# Altium footprint library ICs.PcbLib: 56 footprints (part 4 of 4)
Each footprint in its own frame and in the unit in brackets; x right, y up, seen from the top. Pads: shape width x height; smd on the part's side, far side on the other; paste and mask are expansions set on the pad; w line width, h text height; cw(c..) or ccw(c..) is an arc to the next point about the centre after c.
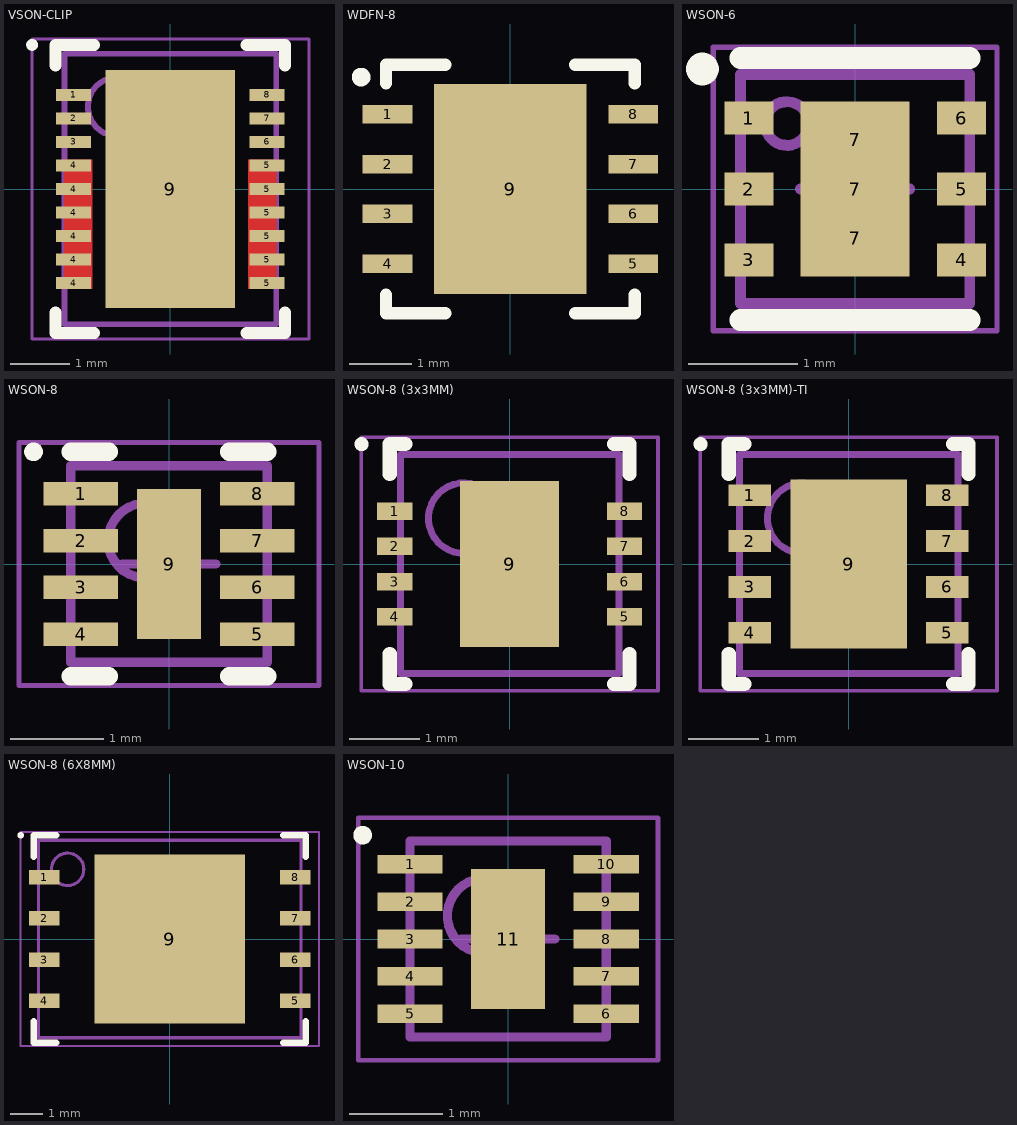
[diagram p3: the footprints below, top view; thin cyan lines are the x and y axes]

## VSON-CLIP [mm] "SON, 18-Leads, Body 4.50x3.50mm, Pitch 0.40mm, Thermal Pad 3.95x1.99mm, IPC Medium Density"
height 1
pads (19):
  rect 0.6x0.2 smd: 1(-1.645,1.6) 2(-1.645,1.2) 3(-1.645,0.8) 4(-1.645,-1.6) 4(-1.645,-1.2) 4(-1.645,-0.8) 4(-1.645,-0.4) 4(-1.645,0) 4(-1.645,0.4) 5(1.645,-1.6) 5(1.645,-1.2) 5(1.645,-0.8) 5(1.645,-0.4) 5(1.645,0) 5(1.645,0.4) 6(1.645,0.8) 7(1.645,1.2) 8(1.645,1.6)
  rect 2.2x4.05 smd: 9(0,0)
Top Layer:
  region: 1.8,0.5 1.325,0.5 1.325,-1.7 1.8,-1.7
  region: -1.8,0.5 -1.325,0.5 -1.325,-1.7 -1.8,-1.7
Top Overlay:
  circle w0.1: c-2.35,2.45 r0.05
  lines w0.2: -1.95,-2.1 -1.95,-2.45 -1.295,-2.45 ; -1.95,2.1 -1.95,2.45 -1.295,2.45 ; 1.295,-2.45 1.95,-2.45 1.95,-2.1 ; 1.295,2.45 1.95,2.45 1.95,2.1
Mechanical 13:
  circle w0.1: c-0.9,1.4 r0.5
  lines w0.1: -1.8,-2.3 1.8,-2.3 1.8,2.3 -1.8,2.3 -1.8,-2.3
Mechanical 15:
  lines w0.05: -2.355,-2.55 2.355,-2.55 2.355,2.55 -2.355,2.55 -2.355,-2.55
  lines w0.1: -0.5,0 0.5,0 ; 0,-0.5 0,0.5
3D body "SON40P350X100_HS-19N.step": height 1, standoff 0, extent -1.801,-2.3 1.801,2.3

## WDFN-8 [mm] "SON, 8-Leads, Body 3.00x3.00mm, Pitch 0.65mm, Thermal Pad 2.00x1.47mm, IPC Medium Density"
height 1
pads (9):
  rect 0.8x0.3 smd: 1(-1.975,1.2) 2(-1.975,0.4) 3(-1.975,-0.4) 4(-1.975,-1.2) 5(1.975,-1.2) 6(1.975,-0.4) 7(1.975,0.4) 8(1.975,1.2)
  rect 2.45x3.38 smd: 9(0,0)
Top Overlay:
  circle w0.2: c-2.4,1.8 r0.05
  lines w0.2: -2,-1.7 -2,-2 -1.045,-2 ; -2,1.7 -2,2 -1.045,2 ; 1.045,-2 2,-2 2,-1.7 ; 1.045,2 2,2 2,1.7
Mechanical 13:
  circle w0.1: c-0.6,0.6 r0.5
Mechanical 15:
  lines w0.1: -0.5,0 0.5,0 ; 0,-0.5 0,0.5
3D body "User Library-SDC08B.STEP": height 0.8, standoff 0, extent -2,-2 2,2

## WSON-6 [mm] "SON, 6-Leads, Body 2x2mm, Pitch 0.65mm, Thermal Pad 1.6x1mm, TI Recommended"
height 0.8
pads (9):
  rect 0.45x0.3 smd: 1(-0.975,0.65) 2(-0.975,0) 3(-0.975,-0.65) 4(0.975,-0.65) 5(0.975,0) 6(0.975,0.65)
  rrect14% 1x0.7 on Top Paste: 7(0,-0.45) 7(0,0.45)
  rect 1x1.6 smd paste-0.5: 7(0,0)
Top Overlay:
  circle w0.2: c-1.4,1.1 r0.05
  lines w0.2: -1.05,-1.2 -0.8,-1.2 1.05,-1.2 ; -1.05,1.2 0.8,1.2 1.05,1.2
Mechanical 13:
  circle w0.1: c-0.625,0.6 r0.2
  lines w0.1: -1.05,-1.05 1.05,-1.05 1.05,1.05 -1.05,1.05 -1.05,-1.05
Mechanical 15:
  lines w0.05: -1.3,-1.3 1.3,-1.3 1.3,1.3 -1.3,1.3 -1.3,-1.3
  lines w0.1: -0.5,0 0.5,0 ; 0,-0.5 0,0.5
3D body: height 0.8, standoff 0, extent -1.05,-1.05 1.05,1.05
3D body: height 0.81, standoff 0.5, extent -0.824,0.401 -0.426,0.799

## WSON-8 [mm] "SON, 8-Leads, Body 2.00x2.00mm, Pitch 0.50mm, Thermal Pad 1.60x0.69mm, IPC Medium Density"
height 0.8
pads (9):
  rect 0.8x0.25 smd mask+0.08: 1(-0.945,0.75) 2(-0.945,0.25) 3(-0.945,-0.25) 4(-0.945,-0.75) 5(0.945,-0.75) 6(0.945,-0.25) 7(0.945,0.25) 8(0.945,0.75)
  rect 0.69x1.6 smd paste-0.345 mask+0.08: 9(0,0)
Top Overlay:
  circle w0.1: c-1.45,1.2 r0.05
  lines w0.2: -1.05,-1.2 -0.645,-1.2 ; -1.05,1.2 -0.645,1.2 ; 0.645,-1.2 1.05,-1.2 ; 0.645,1.2 1.05,1.2
Mechanical 13:
  circle w0.1: c-0.25,0.25 r0.4
  lines w0.1: -1.05,-1.05 -1.05,1.05 1.05,1.05 1.05,-1.05 -1.05,-1.05
Mechanical 15:
  lines w0.05: -1.605,-1.3 -1.605,1.3 1.605,1.3 1.605,-1.3 -1.605,-1.3
  lines w0.1: -0.5,0 0.5,0 ; 0,-0.5 0,0.5
3D body: height 0.8, standoff 0, extent -1.05,-1.05 1.05,1.05

## WSON-8 (3x3MM) [mm] "SON, 8-Leads, Body 3.00x3.00mm, Pitch 0.50mm, Thermal Pad 2.35x1.40mm, IPC Medium Density"
height 0.8
pads (9):
  rect 0.5x0.25 smd: 1(-1.63,0.75) 2(-1.63,0.25) 3(-1.63,-0.25) 4(-1.63,-0.75) 5(1.63,-0.75) 6(1.63,-0.25) 7(1.63,0.25) 8(1.63,0.75)
  rect 1.4x2.35 smd: 9(0,0)
Top Overlay:
  circle w0.1: c-2.1,1.7 r0.05
  lines w0.2: -1.7,-1.275 -1.7,-1.7 -1.48,-1.7 ; -1.7,1.275 -1.7,1.7 -1.48,1.7 ; 1.48,-1.7 1.7,-1.7 1.7,-1.275 ; 1.48,1.7 1.7,1.7 1.7,1.275
Mechanical 13:
  circle w0.1: c-0.65,0.65 r0.5
  lines w0.1: -1.55,-1.55 -1.55,1.55 1.55,1.55 1.55,-1.55 -1.55,-1.55
Mechanical 15:
  lines w0.05: -2.105,-1.8 -2.105,1.8 2.105,1.8 2.105,-1.8 -2.105,-1.8
  lines w0.1: -0.5,0 0.5,0 ; 0,-0.5 0,0.5
3D body "SON50P300X80_HS-9N.step": height 0.8, standoff 0, extent -1.6,-1.55 1.6,1.55

## WSON-8 (3x3MM)-TI [mm] "SON, 8-Leads, Body 3.00x3.00mm, Pitch 0.65mm, Thermal Pad 2.35x1.40mm, IPC Medium Density"
height 0.8
pads (9):
  rect 0.6x0.31 smd: 1(-1.4,0.975) 2(-1.4,0.325) 3(-1.4,-0.325) 4(-1.4,-0.975) 5(1.4,-0.975) 6(1.4,-0.325) 7(1.4,0.325) 8(1.4,0.975)
  rect 1.65x2.4 smd: 9(0,0)
Top Overlay:
  circle w0.1: c-2.1,1.7 r0.05
  lines w0.2: -1.7,-1.275 -1.7,-1.7 -1.48,-1.7 ; -1.7,1.275 -1.7,1.7 -1.48,1.7 ; 1.48,-1.7 1.7,-1.7 1.7,-1.275 ; 1.48,1.7 1.7,1.7 1.7,1.275
Mechanical 13:
  circle w0.1: c-0.65,0.65 r0.5
  lines w0.1: -1.55,-1.55 1.55,-1.55 1.55,1.55 -1.55,1.55 -1.55,-1.55
Mechanical 15:
  lines w0.05: -2.105,-1.8 2.105,-1.8 2.105,1.8 -2.105,1.8 -2.105,-1.8
  lines w0.1: -0.5,0 0.5,0 ; 0,-0.5 0,0.5
3D body "SON50P300X80_HS-9N.step": height 0.8, standoff 0, extent -1.6,-1.55 1.6,1.55

## WSON-8 (6X8MM) [mm] "SON, 8-Leads, Body 6.00x8.00mm, Pitch 1.27mm, Thermal Pad 5.20x4.65mm, IPC Medium Density"
height 0.8
pads (9):
  rect 0.95x0.45 smd: 1(-3.87,1.905) 2(-3.87,0.635) 3(-3.87,-0.635) 4(-3.87,-1.905) 5(3.87,-1.905) 6(3.87,-0.635) 7(3.87,0.635) 8(3.87,1.905)
  rect 4.65x5.2 smd paste-2.325: 9(0,0)
Top Overlay:
  circle w0.1: c-4.6,3.2 r0.05
  lines w0.2: -4.2,-2.53 -4.2,-3.2 -3.495,-3.2 ; -4.2,2.53 -4.2,3.2 -3.495,3.2 ; 3.495,-3.2 4.2,-3.2 4.2,-2.53 ; 3.495,3.2 4.2,3.2 4.2,2.53
Top Paste:
  rectangle: 1.26,-2.5 2.22,-1.4
  rectangle: 1.26,-1.2 2.22,-0.1
  rectangle: 1.26,0.1 2.22,1.2
  rectangle: 1.26,1.4 2.22,2.5
  rectangle: 0.1,-2.5 1.06,-1.4
  rectangle: 0.1,-1.2 1.06,-0.1
  rectangle: 0.1,0.1 1.06,1.2
  rectangle: 0.1,1.4 1.06,2.5
  rectangle: -1.06,-2.5 -0.1,-1.4
  rectangle: -1.06,-1.2 -0.1,-0.1
  rectangle: -1.06,0.1 -0.1,1.2
  rectangle: -1.06,1.4 -0.1,2.5
  rectangle: -2.22,-2.5 -1.26,-1.4
  rectangle: -2.22,-1.2 -1.26,-0.1
  rectangle: -2.22,0.1 -1.26,1.2
  rectangle: -2.22,1.4 -1.26,2.5
Mechanical 13:
  circle w0.1: c-3.15,2.15 r0.5
  lines w0.1: -4.05,-3.05 4.05,-3.05 4.05,3.05 -4.05,3.05 -4.05,-3.05
Mechanical 15:
  lines w0.05: -4.605,-3.3 4.605,-3.3 4.605,3.3 -4.605,3.3 -4.605,-3.3
  lines w0.1: -0.5,0 0.5,0 ; 0,-0.5 0,0.5
3D body "SON127P800X80_HS-9N.step": height 0.8, standoff 0, extent -4.051,-3.05 4.051,3.05

## WSON-10 [mm] "SON, 10-Leads, Body 2.00x2.00mm, Pitch 0.40mm, Thermal Pad 1.50x0.79mm, IPC Medium Density"
height 0.8
pads (11):
  rect 0.7x0.2 smd: 1(-1.05,0.8) 2(-1.05,0.4) 3(-1.05,0) 4(-1.05,-0.4) 5(-1.05,-0.8) 6(1.05,-0.8) 7(1.05,-0.4) 8(1.05,0) 9(1.05,0.4) 10(1.05,0.8)
  rect 0.79x1.5 smd: 11(0,0)
Top Overlay:
  circle w0.1: c-1.557,1.112 r0.05
Mechanical 13:
  circle w0.1: c-0.25,0.25 r0.4
  lines w0.1: -1.05,-1.05 -1.05,1.05 1.05,1.05 1.05,-1.05 -1.05,-1.05
Mechanical 15:
  lines w0.05: -1.605,-1.3 -1.605,1.3 1.605,1.3 1.605,-1.3 -1.605,-1.3
  lines w0.1: -0.5,0 0.5,0 ; 0,-0.5 0,0.5
3D body: height 0.8, standoff 0.05, extent -1.05,-1.05 1.05,1.05